# Altium footprint library probe.PcbLib: 10 footprints
Each footprint in its own frame and in the unit in brackets; x right, y up, seen from the top. Pads: shape width x height; smd on the part's side, far side on the other; paste and mask are expansions set on the pad; w line width, h text height; cw(c..) or ccw(c..) is an arc to the next point about the centre after c.
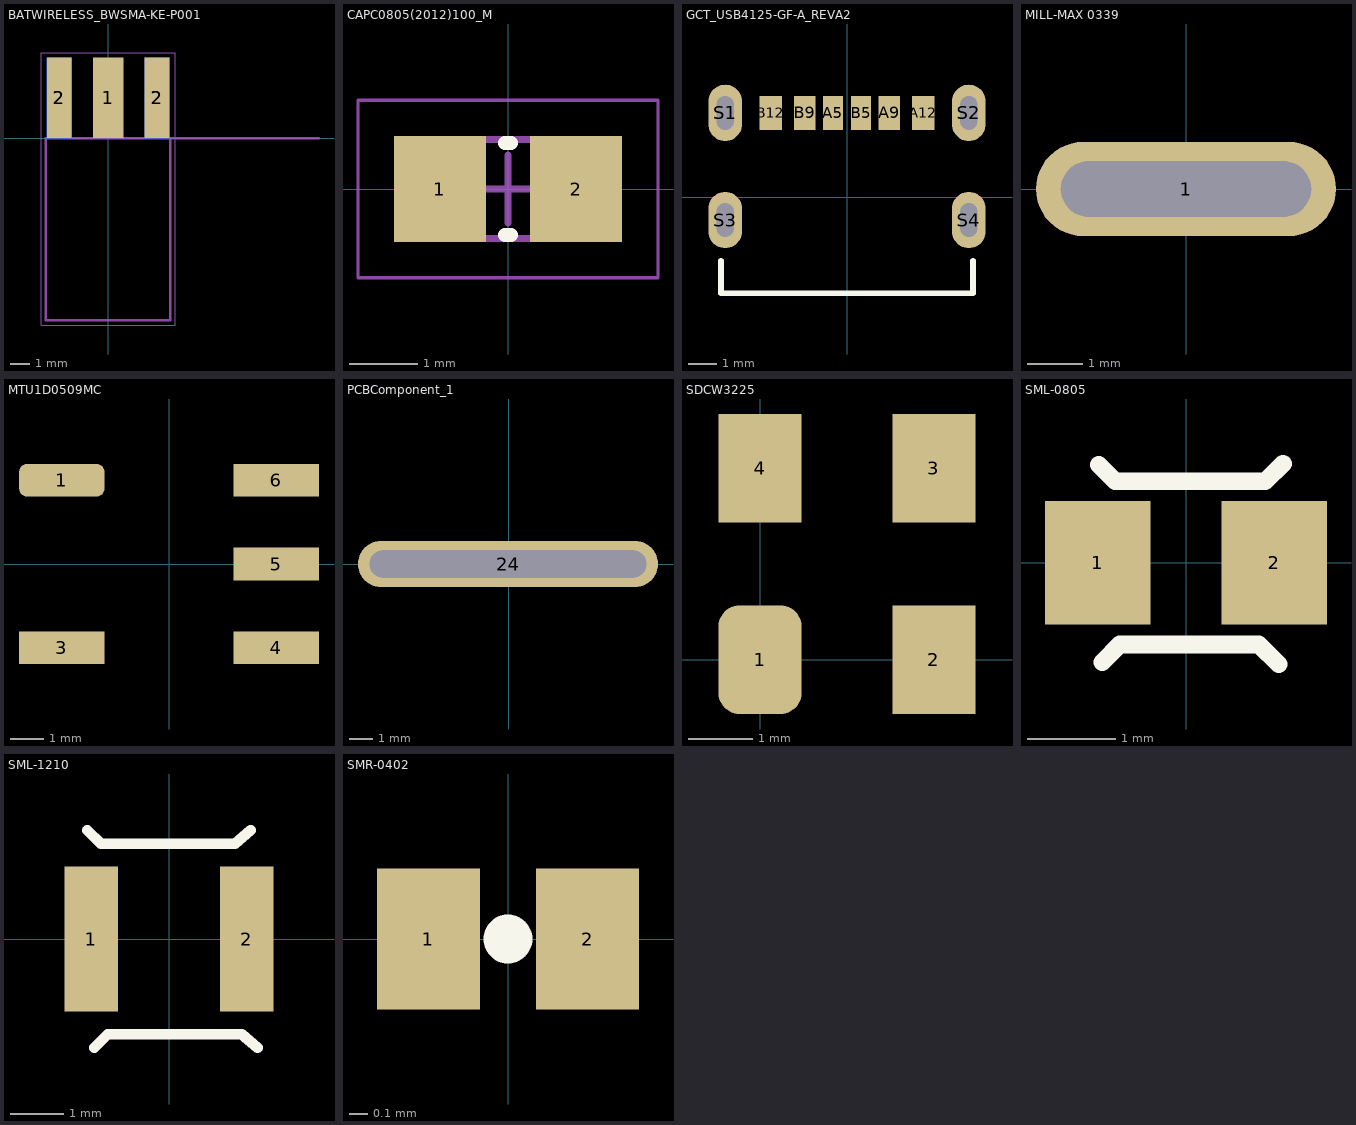
[diagram p0: the footprints below, top view; thin cyan lines are the x and y axes]

## BATWIRELESS_BWSMA-KE-P001 [mm]
height 6.5
pads (5):
  rect 1.6x4.2 smd: 1(0,2.1)
  rect 1.3x4.2 smd: 2(-2.55,2.1) 2(2.55,2.1)
  rect 1.3x4.2 smd far side: 2(-2.55,2.1) 2(2.55,2.1)
Mechanical 13:
  lines w0.127: 11,0 3.25,0 ; 3.25,0 -3.25,0 -3.25,-9.5 3.25,-9.5 3.25,0
  text "PCB EDGE" at 3.75,0.25 h1.02
Mechanical 15:
  lines w0.05: -3.5,-9.75 3.5,-9.75 3.5,4.45 -3.5,4.45 -3.5,-9.75
3D body "CON-SMA-EDGE-S--3DModel-STEP-269445.STEP": height 3.55, standoff -2.8, extent -3.175,-9.459 3.175,3.871

## CAPC0805(2012)100_M [mm] "Chip Capacitor, Body 2.0x1.2mm, Height 1.0mm, IPC Low Density"
height 1
pads (2):
  rect 1.35x1.55 smd: 1(-1,0) 2(1,0)
Top Overlay:
  lines w0.2: -0.05,-0.675 0.05,-0.675 ; -0.05,0.675 0.05,0.675
Mechanical 13:
  lines w0.1: -1.1,-0.725 -1.1,0.725 1.1,0.725 1.1,-0.725 -1.1,-0.725
Mechanical 15:
  lines w0.05: -2.2,-1.3 -2.2,1.3 2.2,1.3 2.2,-1.3 -2.2,-1.3
  lines w0.1: -0.5,0 0.5,0 ; 0,-0.5 0,0.5
3D body: height 1, standoff 0, extent -0.6,-0.725 0.6,0.725
3D body: height 1, standoff 0, extent -1.1,-0.725 -0.6,0.725
3D body: height 1, standoff 0, extent 0.6,-0.725 1.1,0.725

## GCT_USB4125-GF-A_REVA2 [mm]
pads (10):
  rect 0.7x1.2 smd: A5(-0.5,3) B5(0.5,3)
  rect 0.76x1.2 smd: A9(1.5,3) B9(-1.5,3)
  rect 0.8x1.2 smd: A12(2.7,3) B12(-2.7,3)
  oval 1.2x2 hole 0.6 slot 1.2 at 90 deg mask+0: S1(-4.32,3) S2(4.32,3) S3(-4.32,-0.8) S4(4.32,-0.8)
Top Overlay:
  lines w0.2: -4.47,-2.25 -4.47,-3.4 4.47,-3.4 4.47,-2.25
Mechanical 13:
  lines w0.1: -4.47,-3.4 4.47,-3.4
3D body "USB4125-GF-A--3DModel-STEP-56544.STEP": height 3.26, standoff -1.25, extent -4.47,-3.323 4.47,3.577

## MILL-MAX 0339 [mm] "MILL-MAX 0339"
height 1.372
pads (1):
  oval 5.4x1.7 hole 1 slot 4.5 at 0 deg: 1(0,0)
3D body "c-50935-6-z-3d.stp": height -0.1, standoff -1.5, extent -2.364,-0.698 1.9,0.698

## MTU1D0509MC [mm]
pads (5):
  rrect50% 2.6x1 smd: 1(-3.25,2.54)
  rect 2.6x1 smd: 3(-3.25,-2.54) 4(3.25,-2.54) 5(3.25,0) 6(3.25,2.54)
3D body: height 8.5, standoff 0, extent -3.937,-3.81 3.683,3.81

## PCBComponent_1 [mm]
pads (1):
  oval 13x2 hole 1.2 slot 12 at 0 deg: 24(-0.025,0)

## SDCW3225 [mm]
pads (4):
  rrect50% 1.3x1.7 smd: 1(0,0)
  rect 1.3x1.7 smd: 2(2.725,0) 3(2.725,2.999) 4(0,2.999)
3D body "DLW5BTM142SQ2L--3DModel-STEP-1.STEP": height 2.5, standoff 0, extent -1.15,-0.975 3.85,4.025

## SML-0805 [mm]
pads (2):
  rect 1.2x1.4 smd: 1(-1,0) 2(1,0)
Top Overlay:
  lines w0.2: -0.988,1.112 -0.8,0.925 -0.75,0.925 ; -0.95,-1.125 -0.75,-0.925 ; -0.725,0.925 0.8,0.925 0.9,0.925 1.1,1.125 ; -0.65,-0.925 -0.75,-0.925 ; 1.05,-1.15 0.825,-0.925 0.775,-0.925 -0.75,-0.925
3D body "INDC2012X110N.stp": height 1.1, standoff 0, extent -1.155,-0.701 1.045,0.699

## SML-1210 [mm]
pads (2):
  rect 1x2.7 smd: 1(-1.45,0) 2(1.45,0)
Top Overlay:
  lines w0.2: -1.524,2.032 -1.27,1.778 1.23,1.778 1.524,2.032 ; -1.397,-2.032 -1.143,-1.778 1.357,-1.778 1.651,-2.032
3D body "CAPC3225X270N.stp": height 2.7, standoff 0, extent -1.7,-1.35 1.7,1.35

## SMR-0402 [mm]
height 1
pads (2):
  rect 0.55x0.75 smd: 1(-0.425,0) 2(0.425,0)
Top Overlay:
  circle w0.2: c0,0 r0.03
3D body "0402_R.STEP": height 0.2, standoff 0, extent -0.5,-0.3 0.5,0.3